# EAGLE library part LTC3112 (library CNTRL_BOARD)
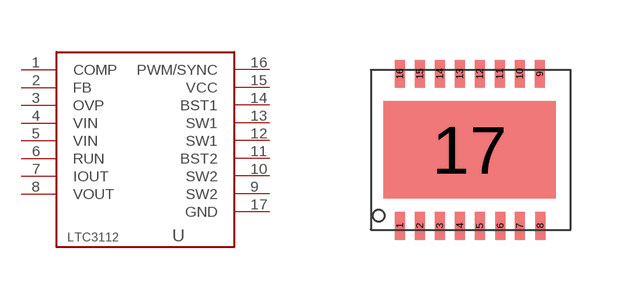
[diagram p8: symbol with the pads of DHD16; footprint DHD16]

Designator prefix -

## LTC3112  [DHD16]
1  COMP
2  FB
3  OVP
4  VIN
5  VIN
6  RUN
7  IOUT
8  VOUT
9  SW2
10  SW2
11  BST2
12  SW1
13  SW1
14  BST1
15  VCC
16  PWM/SYNC
17  GND

## Footprint DHD16 (pad centres in mm)
smd 0.25 x 0.7: 1 0.125,0.35; 2 0.625,0.35; 3 1.125,0.35; 4 1.625,0.35; 5 2.125,0.35; 6 2.638,0.35; 7 3.125,0.35; 8 3.638,0.35; 9 3.625,4.15; 10 3.125,4.15; 11 2.625,4.15; 12 2.125,4.15; 13 1.625,4.15; 14 1.125,4.15; 15 0.625,4.15; 16 0.125,4.15
smd 4.34 x 2.44: 17 1.875,2.25